# Altium footprint library 230V_Connector.PcbLib: 1 footprints
Each footprint in its own frame and in the unit in brackets; x right, y up, seen from the top. Pads: shape width x height; smd on the part's side, far side on the other; paste and mask are expansions set on the pad; w line width, h text height; cw(c..) or ccw(c..) is an arc to the next point about the centre after c.
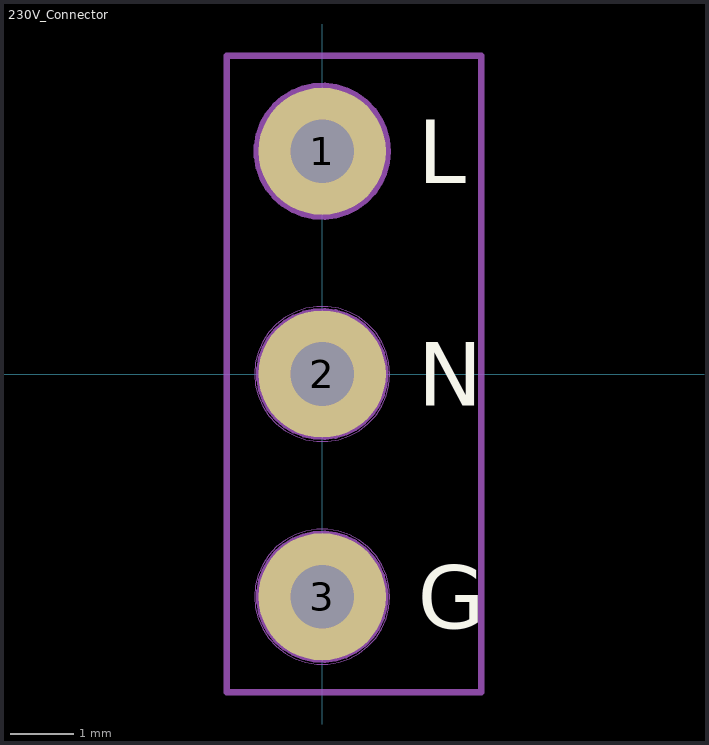
[diagram p0: the footprint, top view; thin cyan lines are the x and y axes]

## 230V_Connector [mm]
pads (3):
  round 2 hole 1: 1(0,3.5) 2(0,0) 3(0,-3.5)
Top Overlay:
  text "G" at 1.5,-4 h1
  text "N" at 1.5,-0.5 h1
  text "L" at 1.5,3 h1
Mechanical 3:
  circle w0.1: c0,3.5 r1.03
  circle w0.1: c0,0 r0.99
  circle w0.1: c0,-3.5 r0.99
Mechanical 5:
  circle w0.01: c0,-3.5 r1.063
  circle w0.01: c0,0 r1.063
  circle w0.01: c0,3.5 r1.063
Mechanical 7:
  lines w0.1: -1.5,-5 2.5,-5 2.5,5 -1.5,5 -1.5,4.5 -1.5,-5
Mechanical 9:
  text "'.Designator'" at 1.5,-4.7 h1
3D body: height 1.04, standoff 0, extent -1.5,-5 2.5,5